# EAGLE library part ADF7012 (library custom)
ADF7012 75MHz to 1GHz UHF Transmitter FSK/GFSK/OOK/GOOK/ASK, -16 to 14dBm 2.3-3.6V Operation, DC to 179.2kbps
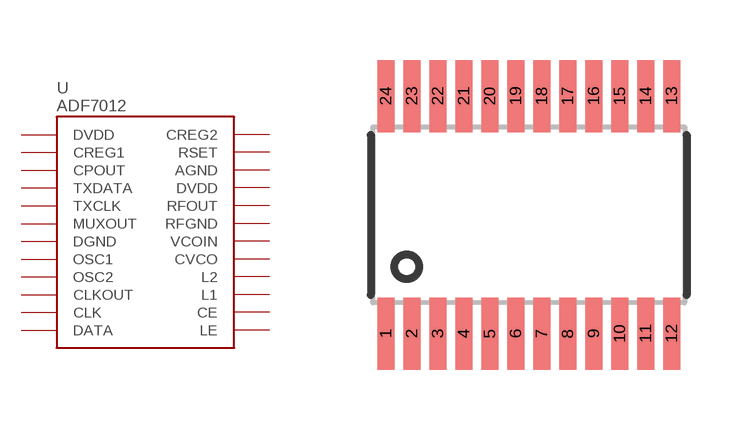
[diagram p40: symbol with the pads of 24-TSSOP; footprint 24-TSSOP]

Designator prefix U

## ADF7012  [24-TSSOP]
1  DVDD
2  CREG1
3  CPOUT
4  TXDATA
5  TXCLK
6  MUXOUT
7  DGND
8  OSC1
9  OSC2
10  CLKOUT
11  CLK
12  DATA
13  LE
14  CE
15  L1
16  L2
17  CVCO
18  VCOIN
19  RFGND
20  RFOUT
21  DVDD
22  AGND
23  RSET
24  CREG2

## Footprint 24-TSSOP (pad centres in mm)
smd 0.425 x 1.8: 1 -3.575,-2.97; 2 -2.925,-2.97; 3 -2.275,-2.97; 4 -1.625,-2.97; 5 -0.975,-2.97; 6 -0.325,-2.97; 7 0.325,-2.97; 8 0.975,-2.97; 9 1.625,-2.97; 10 2.275,-2.97; 11 2.925,-2.97; 12 3.575,-2.97; 13 3.575,2.97; 14 2.925,2.97; 15 2.275,2.97; 16 1.625,2.97; 17 0.975,2.97; 18 0.325,2.97; 19 -0.325,2.97; 20 -0.975,2.97; 21 -1.625,2.97; 22 -2.275,2.97; 23 -2.925,2.97; 24 -3.575,2.97